# Altium schematic symbol library DISP,Bar Graph,LED,10SEG,Thru.SchLib: 1 symbol
Pins are listed as number, name and electrical type; pins without a type are passive.

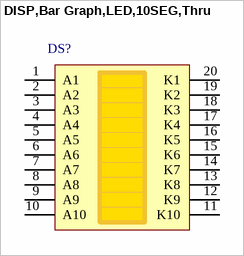
[diagram p0: symbol DISP,Bar Graph,LED,10SEG,Thru]

## DISP,Bar Graph,LED,10SEG,Thru
designator DS?
pins: 1 A1, 2 A2, 3 A3, 4 A4, 5 A5, 6 A6, 7 A7, 8 A8, 9 A9, 10 A10, 11 K10, 12 K9, 13 K8, 14 K7, 15 K6, 16 K5, 17 K4, 18 K3, 19 K2, 20 K1